# Altium footprint library TIP41C.PcbLib: 1 footprints
Each footprint in its own frame and in the unit in brackets; x right, y up, seen from the top. Pads: shape width x height; smd on the part's side, far side on the other; paste and mask are expansions set on the pad; w line width, h text height; cw(c..) or ccw(c..) is an arc to the next point about the centre after c.
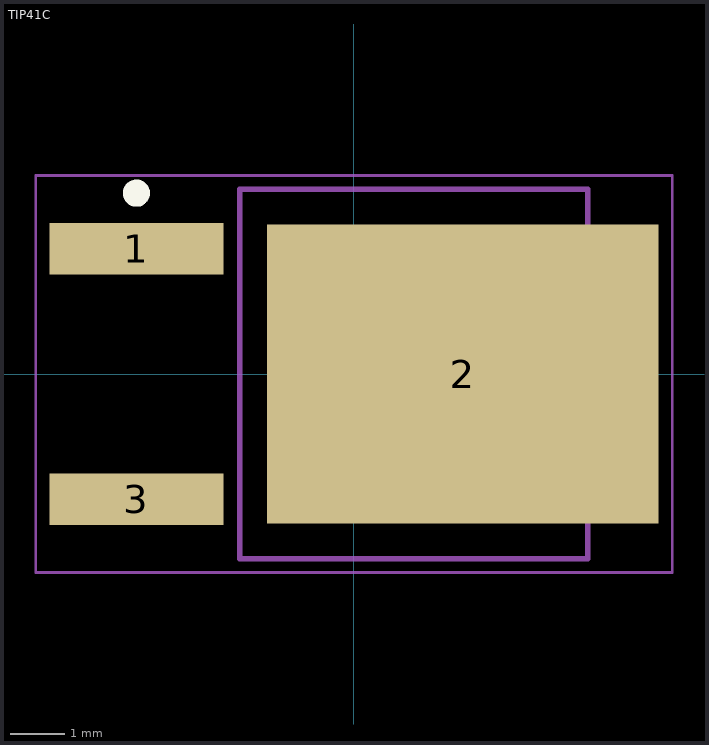
[diagram p0: the footprint, top view; thin cyan lines are the x and y axes]

## TIP41C [mm] "D-PAK, 3-Pads, Body 6.30x6.76mm (max), IPC Medium Density"
height 2.3
pads (3):
  rect 3.2x0.95 smd: 1(-4,2.3) 3(-4,-2.3)
  rect 7.2x5.5 smd: 2(2,0)
Top Overlay:
  circle w0.25: c-4,3.325 r0.125
Mechanical 13:
  lines w0.1: -2.1,-3.4 4.3,-3.4 4.3,3.4 -2.1,3.4 -2.1,-3.4
Mechanical 15:
  lines w0.05: -5.85,-3.65 5.85,-3.65 5.85,3.65 -5.85,3.65 -5.85,-3.65
  lines w0.1: -0.5,0 0.5,0 ; 0,-0.5 0,0.5
3D body "DPAK230P1000X230-3N.step": height 3, standoff 0, extent -4.4,-3.4 5.6,3.4